# EAGLE library part TXB0104_BREAKOUT (library Adafruit_Modules)
TXB0104 Bi-Directional Level Shifter Breakout
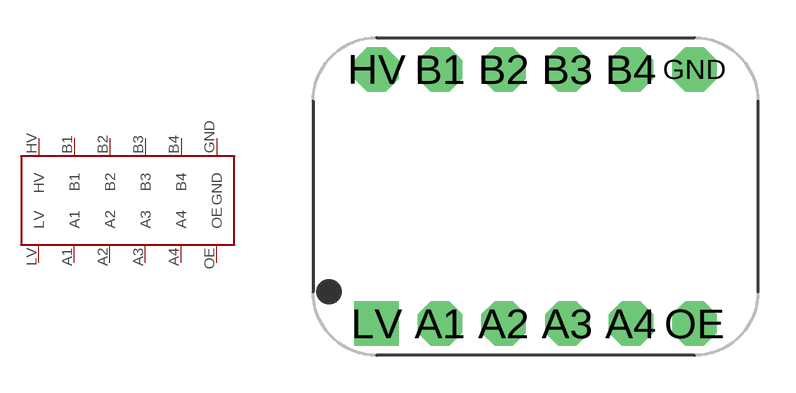
[diagram p6: symbol with the pads of TXB0104; footprint TXB0104]

Designator prefix -

## TXB0104_BREAKOUT (ADAFRUIT: 1875)  [TXB0104]
A1  A1
A2  A2
A3  A3
A4  A4
B1  B1
B2  B2
B3  B3
B4  B4
GND  GND  pwr
HV  HV  in
LV  LV  in
OE  OE  pas

## Footprint TXB0104 (pad centres in mm)
TXB0104 Bi-Directional Level Shifter Breakout
drill 1.016 pad 1.778 octagon: A1 -3.81,0; A2 -1.27,0; A3 1.27,0; A4 3.81,0; B1 -3.81,10.16; B2 -1.27,10.16; B3 1.27,10.16; B4 3.81,10.16; GND 6.35,10.16; HV -6.35,10.16; OE 6.35,0
drill 1.016 pad 1.778 square: LV -6.35,0